# Altium schematic symbol library Circulators.SchLib: 3 symbols
Pins are listed as number, name and electrical type; pins without a type are passive.

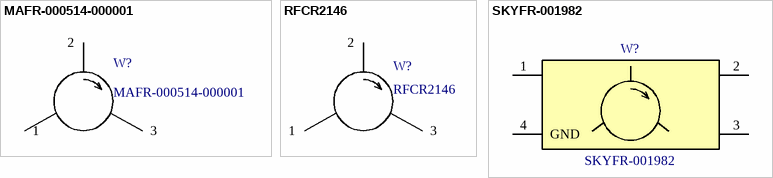
[diagram p0: symbols MAFR-000514-000001 to SKYFR-001982]

## MAFR-000514-000001
designator W?
3100-3500 MHz Single Junction Drop-In Circulator; Manufacturer: Skyworks; Direction: CW; PartNumber: MAFR-000514-000001; ComponentLink1Description: Product Page; ComponentLink1URL: https://www.skyworksinc.com/en/Products/Circulators-and-Isolators/MAFR-000514-000001; ComponentLink2Description: DataSheet; ComponentLink2URL: https://www.skyworksinc.com/-/media/SkyWorks/Documents/Products/1601-1700/201669A.pdf
footprint MAFR-000514-000001 (19X19X7.6 Skyworks Drop-In Circulator)
pins: 1, 2, 3

## RFCR2146
designator W?
Flange Mount Drop-in Circulator 285-325 MHz; Manufacturer: RFCi; Direction: CW; PartNumber: RFCR2146; ComponentLink1Description: Product Page; ComponentLink1URL: https://www.rf-ci.com/circulators/drop-in-circulators/flange-mount-drop-in-circulator-200mhz-to-3000mhz/; ComponentLink2Description: DataSheet; ComponentLink2URL: http://www.rf-ci.com/wp-content/themes/rfci/pdf/Communication_Bands_200_to_3000Mhz/CR2146-OSrA.pdf
footprint RFCI DC-04 (RFCI DC-04 44.5mm Flange Drop-In Package)
pins: 1, 2, 3

## SKYFR-001982
designator W?
1200 to 1400 MHz Single-Junction Robust Lead Circulator; Manufacturer: Skyworks; Direction: CW; PartNumber: SKYFR-001982; ComponentLink1Description: Product Page; ComponentLink1URL: https://www.skyworksinc.com/en/Products/Circulators-and-Isolators/SKYFR-001982; ComponentLink2Description: DataSheet; ComponentLink2URL: https://www.skyworksinc.com/-/media/SkyWorks/Documents/Products/2901-3000/SKYFR-001982_205787A.pdf
footprint SKYFR-001982 (SKYFR-001982 Circulator)
pins: 1, 2, 3, 4 GND